# Altium footprint library XSUB_COMP.PcbLib: 2 footprints
Each footprint in its own frame and in the unit in brackets; x right, y up, seen from the top. Pads: shape width x height; smd on the part's side, far side on the other; paste and mask are expansions set on the pad; w line width, h text height; cw(c..) or ccw(c..) is an arc to the next point about the centre after c.
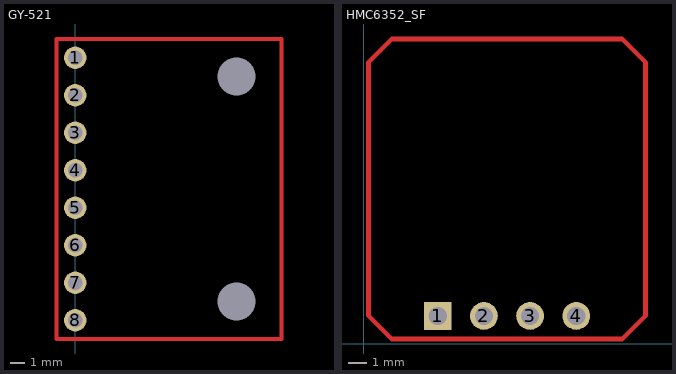
[diagram p0: the footprints below, top view; thin cyan lines are the x and y axes]

## GY-521 [mil]
pads (10):
  round 60 hole 39.37: 1(0,850) 2(0,750) 3(0,650) 4(0,550) 5(0,450) 6(0,350) 7(0,250) 8(0,150)
  round 60 hole 102.36: SCREW1(430,800) SCREW2(430,200)
Top Layer:
  lines w10: -50,100 550,100 550,900 -50,900 -50,100
  text "GY-521" at 130,500 h60

## HMC6352_SF [mil]
pads (4):
  rect 60x60 hole 39.37: 1(160,60)
  round 60 hole 39.37: 2(260,60) 3(360,60) 4(460,60)
Top Layer:
  lines w10: 10,60 60,10 560,10 610,60 610,610 560,660 60,660 10,610 10,60
  text "HMC6352 C" at 50,420 h60